# Altium schematic symbol library Components - 24.04.20 - 04.06.SchLib: 1 symbol
Pins are listed as number, name and electrical type; pins without a type are passive.

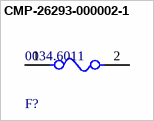
[diagram p0: symbol CMP-26293-000002-1]

## CMP-26293-000002-1
designator F?, comment 0034.6011
FUSE BOARD MNT 500MA 250VAC RAD; Manufacturer: Schurter; Max Fuse Ac Voltage: 250V; Fuse I2T: 0.09A2Sec; Fuse Current: 0.5A; Standoff Height: 0.5mm; Fuse Voltage Drop: 350mV; Fuse Blow Speed: Fast; Category: Fuse; RoHS: TRUE; Device Class L3: unset; Lead Free: Yes; Height: 8.5mm; ComponentLink2URL: https://us.schurter.com/en/datasheet/typ_MSF_250.pdf; Voltage Rating: 250V; ComponentLink2Description: Datasheet; Ambient Temperature Range Low: -40°C; Digikey Description: FUSE BOARD MNT 500MA 250VAC RAD; Automotive: No; Octopart: https://octopart.com/0034.6011-schurter-8310; Package: 0034.6011; Manufacturer Part Number: 0034.6011; Device Class L2: Fuses; Ambient Temperature Range High: +85°C; Device Class L1: Circuit Protection
footprint FP-0034_6011-MFG
pins: 1, 2